# EAGLE library part TGAT (library 1zac)
NeuroSky's Mindwave IC for EEG
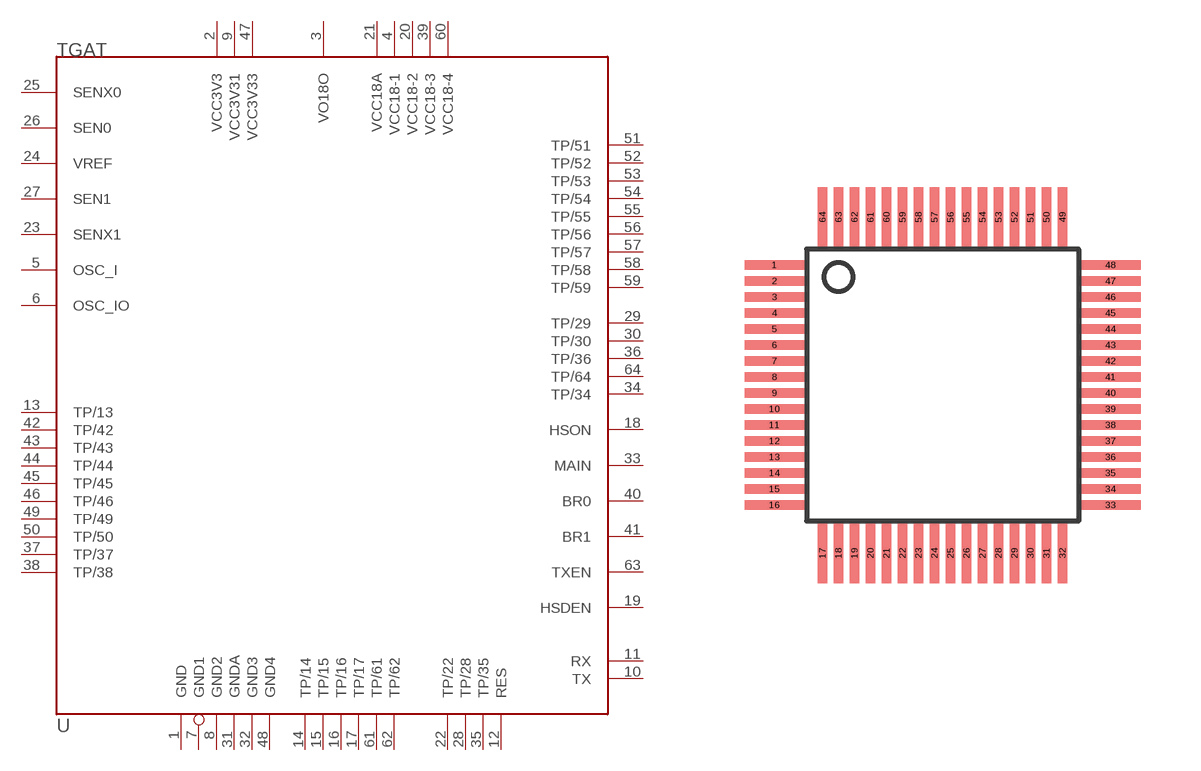
[diagram p14: symbol with the pads of LQFP64-7X7; footprint LQFP64-7X7]

Designator prefix -

## TGAT (MPN: TGAT1)  [LQFP64-7X7]
1  GND  sup
2  VCC3V3
3  VO18O
4  VCC18-1
5  OSC_I  in
6  OSC_IO  out
7  GND1
8  GND2
9  VCC3V31
10  TX
11  RX
12  RES  sup
13  TP/13  sup
14  TP/14
15  TP/15
16  TP/16
17  TP/17
18  HSON
19  HSDEN
20  VCC18-2
21  VCC18A
22  TP/22
23  SENX1
24  VREF
25  SENX0
26  SEN0
27  SEN1
28  TP/28
29  TP/29
30  TP/30
31  GNDA  sup
32  GND3  sup
33  MAIN
34  TP/34
35  TP/35
36  TP/36
37  TP/37
38  TP/38
39  VCC18-3  in
40  BR0
41  BR1
42  TP/42
43  TP/43
44  TP/44
45  TP/45
46  TP/46
47  VCC3V33  sup
48  GND4  sup
49  TP/49
50  TP/50
51  TP/51
52  TP/52
53  TP/53
54  TP/54
55  TP/55
56  TP/56
57  TP/57
58  TP/58
59  TP/59
60  VCC18-4
61  TP/61
62  TP/62
63  TXEN  sup
64  TP/64  sup

## Footprint LQFP64-7X7 (pad centres in mm)
smd 1.5 x 0.24: 1 -4.2,2.8; 2 -4.2,2.4; 3 -4.2,2; 4 -4.2,1.6; 5 -4.2,1.2; 6 -4.2,0.8; 7 -4.2,0.4; 8 -4.2,0; 9 -4.2,-0.4; 10 -4.2,-0.8; 11 -4.2,-1.2; 12 -4.2,-1.6; 13 -4.2,-2; 14 -4.2,-2.4; 15 -4.2,-2.8; 16 -4.2,-3.2; 33 4.2,-3.2; 34 4.2,-2.8; 35 4.2,-2.4; 36 4.2,-2; 37 4.2,-1.6; 38 4.2,-1.2; 39 4.2,-0.8; 40 4.2,-0.4; 41 4.2,0; 42 4.2,0.4; 43 4.2,0.8; 44 4.2,1.2; 45 4.2,1.6; 46 4.2,2; 47 4.2,2.4; 48 4.2,2.8
smd 0.24 x 1.5: 17 -3,-4.4; 18 -2.6,-4.4; 19 -2.2,-4.4; 20 -1.8,-4.4; 21 -1.4,-4.4; 22 -1,-4.4; 23 -0.6,-4.4; 24 -0.2,-4.4; 25 0.2,-4.4; 26 0.6,-4.4; 27 1,-4.4; 28 1.4,-4.4; 29 1.8,-4.4; 30 2.2,-4.4; 31 2.6,-4.4; 32 3,-4.4; 49 3,4; 50 2.6,4; 51 2.2,4; 52 1.8,4; 53 1.4,4; 54 1,4; 55 0.6,4; 56 0.2,4; 57 -0.2,4; 58 -0.6,4; 59 -1,4; 60 -1.4,4; 61 -1.8,4; 62 -2.2,4; 63 -2.6,4; 64 -3,4